# Altium footprint library pcb_v1.PcbLib: 39 footprints (part 1 of 3)
Each footprint in its own frame and in the unit in brackets; x right, y up, seen from the top. Pads: shape width x height; smd on the part's side, far side on the other; paste and mask are expansions set on the pad; w line width, h text height; cw(c..) or ccw(c..) is an arc to the next point about the centre after c.
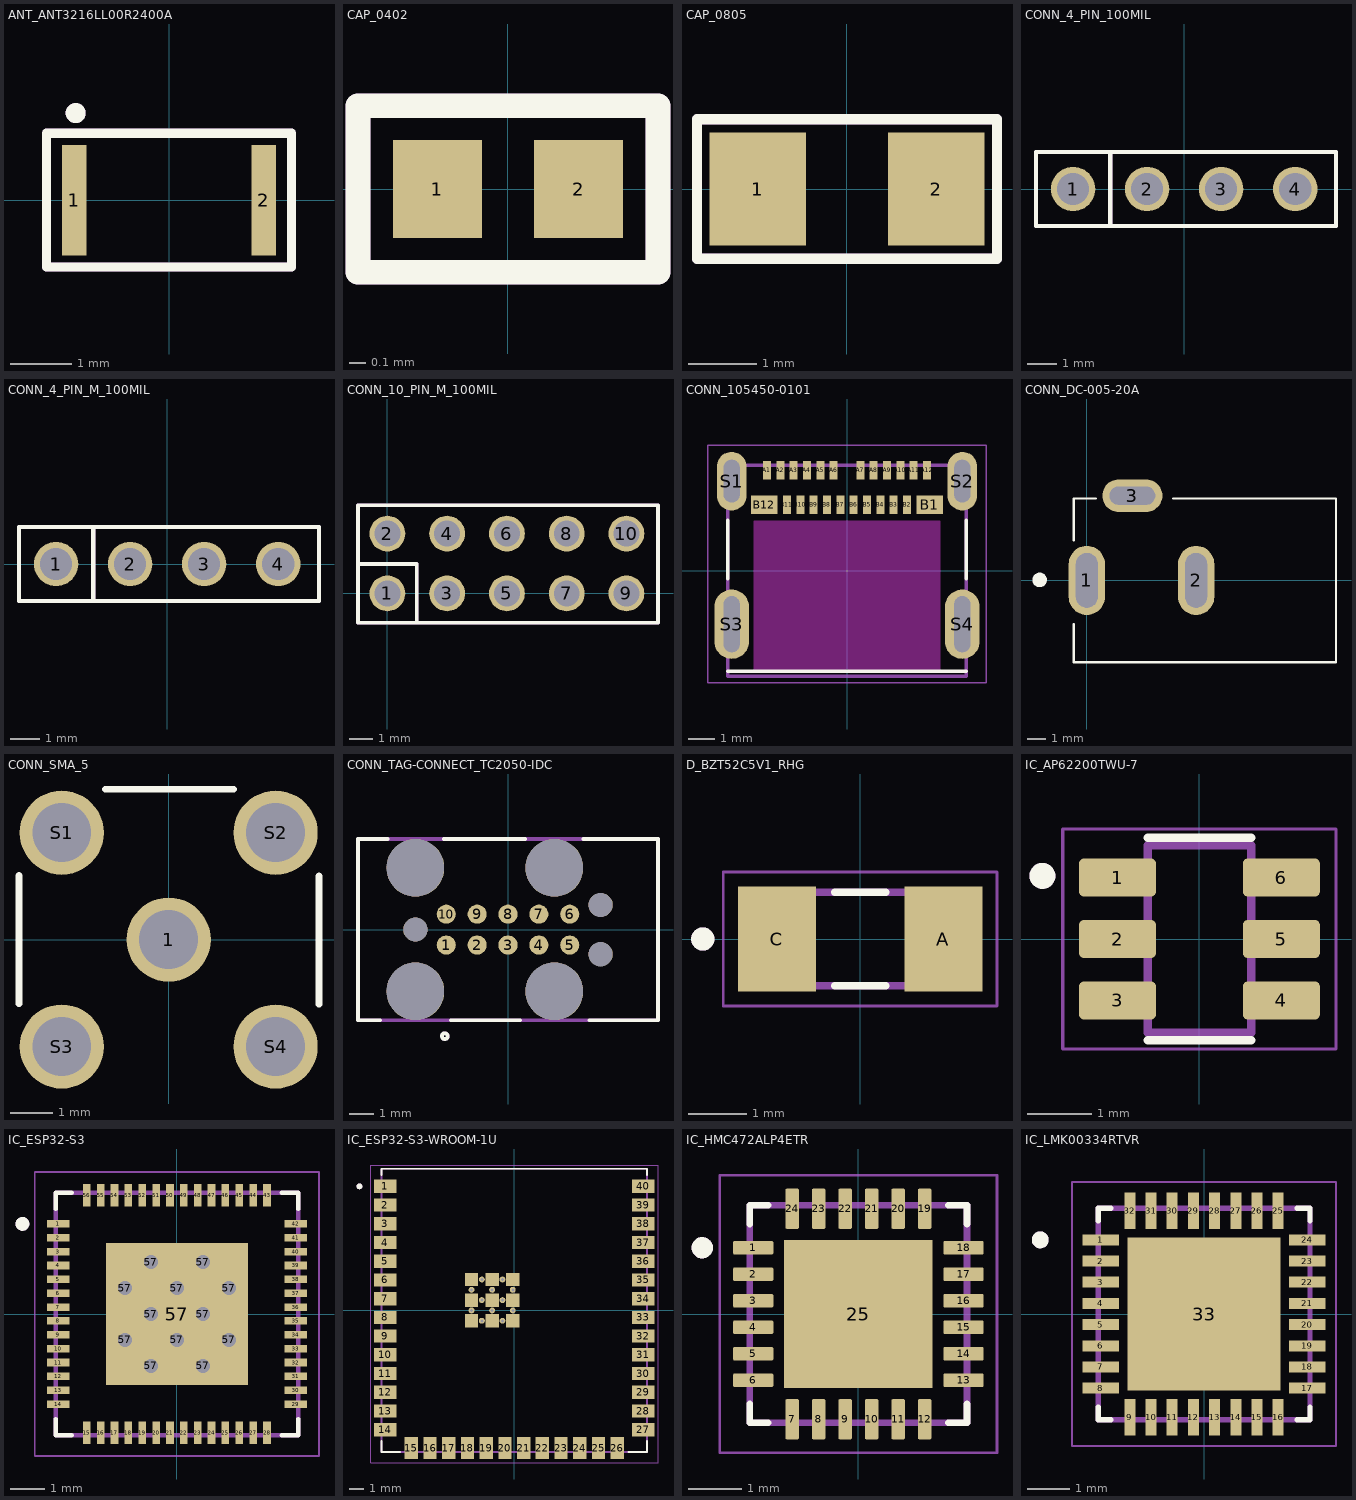
[diagram p0: the footprints below, top view; thin cyan lines are the x and y axes]

## ANT_ANT3216LL00R2400A [mm]
pads (2):
  rect 0.4x1.8 smd: 1(-1.55,0) 2(1.55,0)
Top Overlay:
  circle w0.254: c-1.524,1.422 r0.036
  lines w0.15: -2,-1.092 -2,1.092 2,1.092 2,-1.092 -2,-1.092
Mechanical 13:
  circle w0.254: c-1.524,1.422 r0.036
  lines w0.15: -2,-1.092 -2,1.092 2,1.092 2,-1.092 -2,-1.092
Mechanical 15:
  circle w0.254: c-1.524,1.422 r0.036
  lines w0.15: -2,-1.092 -2,1.092 2,1.092 2,-1.092 -2,-1.092
3D body: height 1.2, standoff 0, extent -1.549,-0.889 1.549,0.889

## CAP_0402 [mm]
pads (2):
  rect 0.54x0.6 smd: 1(-0.43,0) 2(0.43,0)
Top Overlay:
  lines w0.15: -0.914,-0.508 0.914,-0.508 0.914,0.508 -0.914,0.508 -0.914,-0.508
Mechanical 13:
  lines w0.15: -0.914,-0.508 0.914,-0.508 0.914,0.508 -0.914,0.508 -0.914,-0.508
  text ".Designator" at -0.559,-0.276 h1
Mechanical 15:
  lines w0.15: -0.914,-0.508 0.914,-0.508 0.914,0.508 -0.914,0.508 -0.914,-0.508
3D body "User Library-C0402-1.step": height 0.51, standoff 0.01, extent -0.472,-0.271 0.523,0.229

## CAP_0805 [mm]
pads (2):
  rect 1.4x1.65 smd: 1(-1.3,0) 2(1.3,0)
Top Overlay:
  lines w0.15: -2.184,-1.016 2.184,-1.016 2.184,1.016 -2.184,1.016 -2.184,-1.016
Mechanical 13:
  lines w0.15: -2.184,-1.016 2.184,-1.016 2.184,1.016 -2.184,1.016 -2.184,-1.016
  text ".Designator" at -1.473,-0.276 h1
Mechanical 15:
  lines w0.15: -2.184,-1.016 2.184,-1.016 2.184,1.016 -2.184,1.016 -2.184,-1.016
3D body "GRM21BR60J107ME15L.STEP": height 1.26, standoff 0.01, extent -1.025,-0.739 0.975,0.711

## CONN_4_PIN_100MIL [mil]
pads (4):
  round 60 hole 43.31: 1(-150,0) 2(-50,0) 3(50,0) 4(150,0)
Top Overlay:
  lines w5.91: -100,-50 -200,-50 -200,0 -200,50 -100,50 ; -100,-50 -100,50 ; -100,-50 205,-50 205,50 -100,50
Mechanical 13:
  lines w5.91: -100,-50 -200,-50 -200,0 -200,50 -100,50 ; -100,-50 205,-50 205,50 -100,50 ; -100,-50 -100,50
Mechanical 15:
  lines w5.91: -100,-50 -100,50 ; -100,-50 205,-50 205,50 -100,50 ; -100,-50 -200,-50 -200,0 -200,50 -100,50
3D body "4-Pin Header - Female - 2.54mm.step": height 197.35, standoff -117.61, extent -209.84,-50 209.84,48.43

## CONN_4_PIN_M_100MIL [mil]
pads (4):
  round 60 hole 43.31: 1(-150,0) 2(-50,0) 3(50,0) 4(150,0)
Top Overlay:
  lines w5.91: -100,-50 -200,-50 -200,0 -200,50 -100,50 ; -100,-50 -100,50 ; -100,-50 205,-50 205,50 -100,50
Mechanical 13:
  lines w5.91: -100,-50 -200,-50 -200,0 -200,50 -100,50 ; -100,-50 205,-50 205,50 -100,50 ; -100,-50 -100,50
Mechanical 15:
  lines w5.91: -100,-50 -100,50 ; -100,-50 205,-50 205,50 -100,50 ; -100,-50 -200,-50 -200,0 -200,50 -100,50
3D body "4 pin header male point 100 pitch.step": height 449.32, standoff -93.2, extent -196.85,-49.21 196.85,49.21

## CONN_10_PIN_M_100MIL [mil]
pads (10):
  round 60 hole 43.31: 1(0,0) 2(0,100) 3(100,0) 4(100,100) 5(200,0) 6(200,100) 7(300,0) 8(300,100) 9(400,0) 10(400,100)
Top Overlay:
  lines w6.3: -49.21,-49.21 452.76,-49.21 452.76,147.64 -49.21,147.64 -49.21,-49.21 ; -49.21,-49.21 49.21,-49.21 49.21,49.21 -49.21,49.21 -49.21,-49.21
Mechanical 13:
  lines w6.3: -49.21,-49.21 49.21,-49.21 49.21,49.21 -49.21,49.21 -49.21,-49.21 ; -49.21,-49.21 452.76,-49.21 452.76,147.64 -49.21,147.64 -49.21,-49.21
Mechanical 15:
  lines w6.3: -49.21,-49.21 452.76,-49.21 452.76,147.64 -49.21,147.64 -49.21,-49.21
3D body "Header 10 pins.step": height 336.22, standoff -118.11, extent -50,-50 450,150

## CONN_105450-0101 [mm]
pads (28):
  rect 0.3x0.7 smd: A1(-3,3.77) A2(-2.5,3.77) A3(-2,3.77) A4(-1.5,3.77) A5(-1,3.77) A6(-0.5,3.77) A7(0.5,3.77) A8(1,3.77) A9(1.5,3.77) A10(2,3.77) A11(2.5,3.77) A12(3,3.77) B2(2.25,2.47) B3(1.75,2.47) B4(1.25,2.47) B5(0.75,2.47) B6(0.25,2.47) B7(-0.25,2.47) B8(-0.75,2.47) B9(-1.25,2.47) B10(-1.75,2.47) B11(-2.25,2.47)
  rect 1x0.7 smd: B1(3.1,2.47) B12(-3.1,2.47)
  oval 1.1x2.2 hole 0.6 slot 1.6 at 90 deg: S1(-4.32,3.36) S2(4.32,3.36)
  oval 1.3x2.6 hole 0.6 slot 2.1 at 90 deg: S3(-4.32,-2) S4(4.32,-2)
Top Overlay:
  lines w0.127: -4.47,-3.77 4.47,-3.77 ; -4.47,-0.3 -4.47,1.9 ; 4.47,-0.3 4.47,1.9
Keep-Out Layer:
  region: 3.5,-3.771 -3.501,-3.771 -3.501,1.88 3.5,1.88
Mechanical 13:
  lines w0.127: -4.47,-3.95 -4.47,3.95 4.47,3.95 4.47,-3.95 -4.47,-3.95
Mechanical 15:
  lines w0.05: -5.22,-4.2 -5.22,4.71 5.22,4.71 5.22,-4.2 -5.22,-4.2
3D body "1054500101--3DModel-STEP-1.STEP": height 3.2, standoff -0.9, extent -4.47,-3.905 4.47,3.995

## CONN_DC-005-20A [mm]
pads (3):
  oval 2x3.8 hole 1.2 slot 3 at 90 deg: 1(0,0) 2(6,0)
  oval 3.3x1.8 hole 1 slot 2.5 at 0 deg: 3(2.5,4.65)
Top Overlay:
  circle w0.4: c-2.591,0.025 r0.2
  lines w0.127: -0.723,-2.413 -0.723,-4.5 13.677,-4.5 13.677,4.5 4.727,4.5 ; -0.723,2.21 -0.723,4.5 0.483,4.5
  lines w0.254: 5.969,0 5.977,0
3D body "Power_JackPJ-102A.step": height 11.49, standoff -3.02, extent -0.762,-4.446 13.638,4.954

## CONN_SMA_5 [mm]
pads (5):
  round 2 hole 1.4: 1(0,0) S1(-2.54,2.54) S2(2.54,2.54) S3(-2.54,-2.54) S4(2.54,-2.54)
Top Overlay:
  lines w0.16: -3.556,-1.524 -3.556,1.524 ; -1.51,3.57 1.538,3.57 ; 3.57,-1.538 3.57,1.51
3D body "2468393_3-1478978-1.stp": height 10.11, standoff -3.39, extent -3.175,-12.4 3.175,3.15

## CONN_TAG-CONNECT_TC2050-IDC [mil]
pads (17):
  round 31 smd paste-39.37: 1(-100,-25) 2(-50,-25) 3(0,-25) 4(50,-25) 5(100,-25) 6(100,25) 7(50,25) 8(0,25) 9(-50,25) 10(-100,25)
  round 93.5 hole 93.5 unplated: ""(-150,-100) ""(-150,100) ""(75,-100) ""(75,100)
  round 39 hole 39 unplated: ""(-150,0) ""(150,-39.96) ""(150,39.96)
Top Overlay:
  circle w5.91: c-102.36,-172.49 r4.72
  lines w5.91: -206.69,-146.77 -242.91,-146.77 -242.91,146.77 -194.88,146.77 ; -104.33,146.77 27.56,146.77 ; -92.52,-146.77 19.68,-146.77 ; 122.05,146.77 242.91,146.77 242.91,-146.77 131.89,-146.77
Mechanical 13:
  circle w5.91: c-102.16,-172.49 r4.72
  lines w5.91: -242.91,-146.77 242.91,-146.77 242.91,146.77 -242.91,146.77 -242.91,-146.77

## D_BZT52C5V1_RHG [mm]
pads (2):
  rect 1.34x1.8 smd: A(1.43,0) C(-1.43,0)
Top Overlay:
  circle w0.2: c-2.7,0 r0.1
  lines w0.127: -0.44,-0.8 0.44,-0.8 ; -0.44,0.8 0.44,0.8
Mechanical 13:
  circle w0.2: c-2.7,0 r0.1
  lines w0.127: -1.3,-0.8 -1.3,0.8 1.3,0.8 1.3,-0.8 -1.3,-0.8
Mechanical 15:
  lines w0.05: -2.35,-1.15 -2.35,1.15 2.35,1.15 2.35,-1.15 -2.35,-1.15
3D body "step_temp.STEP": height 1.15, standoff 0, extent -1.8,-0.8 1.8,0.8

## IC_AP62200TWU-7 [mm]
pads (6):
  rrect25% 1.19x0.59 smd: 1(-1.265,0.95) 2(-1.265,0) 3(-1.265,-0.95) 4(1.265,-0.95) 5(1.265,0) 6(1.265,0.95)
Top Overlay:
  circle w0.2: c-2.425,0.975 r0.1
  lines w0.127: -0.8,-1.565 0.8,-1.565 ; -0.8,1.565 0.8,1.565
Mechanical 13:
  circle w0.2: c-2.425,0.975 r0.1
  lines w0.127: -0.8,-1.45 -0.8,1.45 0.8,1.45 0.8,-1.45 -0.8,-1.45
Mechanical 15:
  lines w0.05: -2.11,-1.7 -2.11,1.7 2.11,1.7 2.11,-1.7 -2.11,-1.7
3D body "step_temp.STEP": height 1.45, standoff 0, extent -1.4,-1.45 1.4,1.45

## IC_ESP32-S3 [mm]
pads (69):
  rect 0.65x0.22 smd mask+0.05: 1(-3.425,2.6) 2(-3.425,2.2) 3(-3.425,1.8) 4(-3.425,1.4) 5(-3.425,1) 6(-3.425,0.6) 7(-3.425,0.2) 8(-3.425,-0.2) 9(-3.425,-0.6) 10(-3.425,-1) 11(-3.425,-1.4) 12(-3.425,-1.8) 13(-3.425,-2.2) 14(-3.425,-2.6) 29(3.425,-2.6) 30(3.425,-2.2) 31(3.425,-1.8) 32(3.425,-1.4) 33(3.425,-1) 34(3.425,-0.6) 35(3.425,-0.2) 36(3.425,0.2) 37(3.425,0.6) 38(3.425,1) 39(3.425,1.4) 40(3.425,1.8) 41(3.425,2.2) 42(3.425,2.6)
  rect 0.22x0.65 smd mask+0.05: 15(-2.6,-3.425) 16(-2.2,-3.425) 17(-1.8,-3.425) 18(-1.4,-3.425) 19(-1,-3.425) 20(-0.6,-3.425) 21(-0.2,-3.425) 22(0.2,-3.425) 23(0.6,-3.425) 24(1,-3.425) 25(1.4,-3.425) 26(1.8,-3.425) 27(2.2,-3.425) 28(2.6,-3.425) 43(2.6,3.425) 44(2.2,3.425) 45(1.8,3.425) 46(1.4,3.425) 47(1,3.425) 48(0.6,3.425) 49(0.2,3.425) 50(-0.2,3.425) 51(-0.6,3.425) 52(-1,3.425) 53(-1.4,3.425) 54(-1.8,3.425) 55(-2.2,3.425) 56(-2.6,3.425)
  round 0.5 hole 0.4 mask+0: 57(-1.5,-0.75) 57(-1.5,0.75) 57(-0.75,-1.5) 57(-0.75,0) 57(-0.75,1.5) 57(0,-0.75) 57(0,0.75) 57(0.75,-1.5) 57(0.75,0) 57(0.75,1.5) 57(1.5,-0.75) 57(1.5,0.75)
  rect 4.1x4.1 smd paste-1.55: 57(0,0)
Top Overlay:
  circle w0.2: c-4.455,2.6 r0.1
  lines w0.127: -3.5,-3.03 -3.5,-3.5 -3.03,-3.5 ; -3.5,3.03 -3.5,3.5 -3.03,3.5 ; 3.03,-3.5 3.5,-3.5 3.5,-3.03 ; 3.03,3.5 3.5,3.5 3.5,3.03
Top Paste:
  region: -1,1 -2,1 -2,2 -1,2
  region: -1,-0.5 -2,-0.5 -2,0.5 -1,0.5
  region: -1,-2 -2,-2 -2,-1 -1,-1
  region: 0.5,-2 -0.5,-2 -0.5,-1 0.5,-1
  region: 2,-2 1,-2 1,-1 2,-1
  region: 2,-0.5 1,-0.5 1,0.5 2,0.5
  region: 2,1 1,1 1,2 2,2
  region: 0.5,1 -0.5,1 -0.5,2 0.5,2
Mechanical 13:
  circle w0.2: c-4.455,2.6 r0.1
  lines w0.127: -3.5,-3.5 -3.5,3.5 3.5,3.5 3.5,-3.5 -3.5,-3.5
Mechanical 15:
  lines w0.05: -4.1,-4.1 -4.1,4.1 4.1,4.1 4.1,-4.1 -4.1,-4.1
3D body "step_temp.STEP": height 0.9, standoff 0, extent -3.5,-3.5 3.5,3.5

## IC_ESP32-S3-WROOM-1U [mm]
pads (61):
  rect 1.5x0.9 smd: 1(-8.75,8.41) 2(-8.75,7.14) 3(-8.75,5.87) 4(-8.75,4.6) 5(-8.75,3.33) 6(-8.75,2.06) 7(-8.75,0.79) 8(-8.75,-0.48) 9(-8.75,-1.75) 10(-8.75,-3.02) 11(-8.75,-4.29) 12(-8.75,-5.56) 13(-8.75,-6.83) 14(-8.75,-8.1) 27(8.75,-8.1) 28(8.75,-6.83) 29(8.75,-5.56) 30(8.75,-4.29) 31(8.75,-3.02) 32(8.75,-1.75) 33(8.75,-0.48) 34(8.75,0.79) 35(8.75,2.06) 36(8.75,3.33) 37(8.75,4.6) 38(8.75,5.87) 39(8.75,7.14) 40(8.75,8.41)
  rect 0.9x1.5 smd: 15(-6.985,-9.35) 16(-5.715,-9.35) 17(-4.445,-9.35) 18(-3.175,-9.35) 19(-1.905,-9.35) 20(-0.635,-9.35) 21(0.635,-9.35) 22(1.905,-9.35) 23(3.175,-9.35) 24(4.445,-9.35) 25(5.715,-9.35) 26(6.985,-9.35)
  round 0.4 hole 0.2 mask+0: 41_1(-2.9,-0.01) 41_1(-2.9,1.39) 41_1(-2.2,-0.71) 41_1(-2.2,0.69) 41_1(-2.2,2.09) 41_1(-1.5,-0.01) 41_1(-1.5,1.39) 41_1(-0.8,-0.71) 41_1(-0.8,0.69) 41_1(-0.8,2.09) 41_1(-0.1,-0.01) 41_1(-0.1,1.39)
  rect 0.9x0.9 smd: 41_1(-2.9,2.09) 41_2(-1.5,2.09) 41_3(-0.1,2.09) 41_4(-2.9,0.69) 41_5(-1.5,0.69) 41_6(-0.1,0.69) 41_7(-2.9,-0.71) 41_8(-1.5,-0.71) 41_9(-0.1,-0.71)
Top Overlay:
  circle w0.2: c-10.5,8.41 r0.1
  lines w0.127: -9,-8.87 -9,-9.6 -7.755,-9.6 ; -9,9.18 -9,9.6 9,9.6 9,9.18 ; 7.755,-9.6 9,-9.6 9,-8.87
Mechanical 13:
  circle w0.2: c-10.5,8.41 r0.1
  lines w0.127: -9,-9.6 -9,9.6 9,9.6 9,-9.6 -9,-9.6
Mechanical 15:
  lines w0.05: -9.75,-10.35 9.75,-10.35 9.75,9.85 -9.75,9.85 -9.75,-10.35
3D body "step_temp.STEP": height 3.35, standoff 0, extent -9,-9.6 9,9.6

## IC_HMC472ALP4ETR [mm]
pads (25):
  rrect25% 0.76x0.26 smd: 1(-1.985,1.25) 2(-1.985,0.75) 3(-1.985,0.25) 4(-1.985,-0.25) 5(-1.985,-0.75) 6(-1.985,-1.25) 13(1.985,-1.25) 14(1.985,-0.75) 15(1.985,-0.25) 16(1.985,0.25) 17(1.985,0.75) 18(1.985,1.25)
  rrect25% 0.26x0.76 smd: 7(-1.25,-1.985) 8(-0.75,-1.985) 9(-0.25,-1.985) 10(0.25,-1.985) 11(0.75,-1.985) 12(1.25,-1.985) 19(1.25,1.985) 20(0.75,1.985) 21(0.25,1.985) 22(-0.25,1.985) 23(-0.75,1.985) 24(-1.25,1.985)
  rect 2.8x2.8 smd paste-0.51: 25(0,0)
Top Overlay:
  circle w0.2: c-2.945,1.25 r0.1
  lines w0.127: -2.05,-1.7 -2.05,-2.05 -1.7,-2.05 ; -2.05,1.7 -2.05,2.05 -1.7,2.05 ; 1.7,-2.05 2.05,-2.05 2.05,-1.7 ; 1.7,2.05 2.05,2.05 2.05,1.7
Mechanical 13:
  circle w0.2: c-2.945,1.25 r0.1
  lines w0.127: -2.05,-2.05 -2.05,2.05 2.05,2.05 2.05,-2.05 -2.05,-2.05
Mechanical 15:
  lines w0.05: -2.615,-2.615 -2.615,2.615 2.615,2.615 2.615,-2.615 -2.615,-2.615
3D body "step_temp.STEP": height 1, standoff 0, extent -2,-2 2,2

## IC_LMK00334RTVR [mm]
pads (33):
  rect 0.86x0.26 smd: 1(-2.435,1.75) 2(-2.435,1.25) 3(-2.435,0.75) 4(-2.435,0.25) 5(-2.435,-0.25) 6(-2.435,-0.75) 7(-2.435,-1.25) 8(-2.435,-1.75) 17(2.435,-1.75) 18(2.435,-1.25) 19(2.435,-0.75) 20(2.435,-0.25) 21(2.435,0.25) 22(2.435,0.75) 23(2.435,1.25) 24(2.435,1.75)
  rect 0.26x0.86 smd: 9(-1.75,-2.435) 10(-1.25,-2.435) 11(-0.75,-2.435) 12(-0.25,-2.435) 13(0.25,-2.435) 14(0.75,-2.435) 15(1.25,-2.435) 16(1.75,-2.435) 25(1.75,2.435) 26(1.25,2.435) 27(0.75,2.435) 28(0.25,2.435) 29(-0.25,2.435) 30(-0.75,2.435) 31(-1.25,2.435) 32(-1.75,2.435)
  rect 3.6x3.6 smd paste-3: 33(0,0)
Top Overlay:
  circle w0.2: c-3.865,1.75 r0.1
  lines w0.127: -2.5,-2.2 -2.5,-2.5 -2.2,-2.5 ; -2.5,2.2 -2.5,2.5 -2.2,2.5 ; 2.2,-2.5 2.5,-2.5 2.5,-2.2 ; 2.2,2.5 2.5,2.5 2.5,2.2
Top Paste:
  region: -0.22,0.22 -1.36,0.22 -1.36,1.36 -0.22,1.36
  region: 1.36,0.22 0.22,0.22 0.22,1.36 1.36,1.36
  region: 1.36,-1.36 0.22,-1.36 0.22,-0.22 1.36,-0.22
  region: -0.22,-1.36 -1.36,-1.36 -1.36,-0.22 -0.22,-0.22
Mechanical 13:
  circle w0.2: c-3.865,1.75 r0.1
  lines w0.127: -2.5,-2.5 -2.5,2.5 2.5,2.5 2.5,-2.5 -2.5,-2.5
Mechanical 15:
  lines w0.05: -3.115,-3.115 -3.115,3.115 3.115,3.115 3.115,-3.115 -3.115,-3.115
3D body "step_temp.STEP": height 0.8, standoff 0, extent -2.5,-2.5 2.5,2.5